# Altium footprint library TEENSY_3_6.PcbLib: 1 footprints
Each footprint in its own frame and in the unit in brackets; x right, y up, seen from the top. Pads: shape width x height; smd on the part's side, far side on the other; paste and mask are expansions set on the pad; w line width, h text height; cw(c..) or ccw(c..) is an arc to the next point about the centre after c.
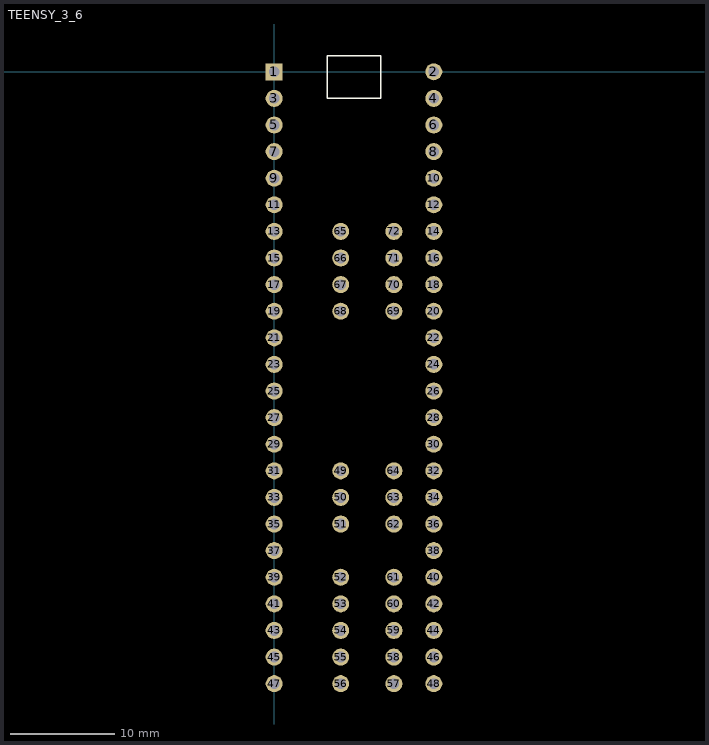
[diagram p0: the footprint, top view; thin cyan lines are the x and y axes]

## TEENSY_3_6 [mil]
pads (72):
  rect 64x64 hole 40: 1(0,0)
  round 64 hole 40: 2(600,0) 3(0,-100) 4(600,-100) 5(0,-200) 6(600,-200) 7(0,-300) 8(600,-300) 9(0,-400) 10(600,-400) 11(0,-500) 12(600,-500) 13(0,-600) 14(600,-600) 15(0,-700) 16(600,-700) 17(0,-800) 18(600,-800) 19(0,-900) 20(600,-900) 21(0,-1000) 22(600,-1000) 23(0,-1100) 24(600,-1100) 25(0,-1200) 26(600,-1200) 27(0,-1300) 28(600,-1300) 29(0,-1400) 30(600,-1400) 31(0,-1500) 32(600,-1500) 33(0,-1600) 34(600,-1600) 35(0,-1700) 36(600,-1700) 37(0,-1800) 38(600,-1800) 39(0,-1900) 40(600,-1900) 41(0,-2000) 42(600,-2000) 43(0,-2100) 44(600,-2100) 45(0,-2200) 46(600,-2200) 47(0,-2300) 48(600,-2300) 49(250,-1500) 50(250,-1600) 51(250,-1700) 52(250,-1900) 53(250,-2000) 54(250,-2100) 55(250,-2200) 56(250,-2300) 57(450,-2300) 58(450,-2200) 59(450,-2100) 60(450,-2000) 61(450,-1900) 62(450,-1700) 63(450,-1600) 64(450,-1500) 65(250,-600) 66(250,-700) 67(250,-800) 68(250,-900) 69(450,-900) 70(450,-800) 71(450,-700) 72(450,-600)
Top Overlay:
  lines w5: 200,-100 400,-100 400,60 200,60 200,-100
3D body "Teensy 3.5 - 3.6.step": height 609.67, standoff 92.45, extent -50,-2350 650,105.1
3D body "24_pos_pin_header.SLDPRT": height 335, standoff -126, extent -50,-2360 50,60
3D body "24_pos_pin_header.SLDPRT": height 335, standoff -126, extent 550,-2360 650,60